# Altium integrated library AYZ0102AGRLC.IntLib: 1 symbol
Pins are listed as number, name and electrical type; pins without a type are passive.

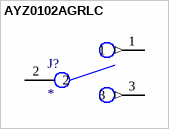
[diagram p0: symbol AYZ0102AGRLC]

## AYZ0102AGRLC
designator J?
Slide Switch SPDT Surface Mount, Right Angle; MF: C&K; MP: AYZ0102AGRLC; SnapEDA_Link: https://www.snapeda.com/parts/AYZ0102AGRLC/C&K/view-part/50616/?ref=snap; Price: None; Check_prices: https://www.snapeda.com/parts/AYZ0102AGRLC/C&K/view-part/50616/?ref=eda; Availability: Good; Value: *; Package: None; Purchase-URL: https://pricing.snapeda.com/search/part/AYZ0102AGRLC/?ref=eda
footprint SW_AYZ0102AGRLC
pins: 1 (out), 2 (power), 3 (out)